# EAGLE library part SSW-103-02-S-T (library con-samtec)
THROUGH-HOLE .025" SQ POST SOCKET Source: Samtec SSW.pdf
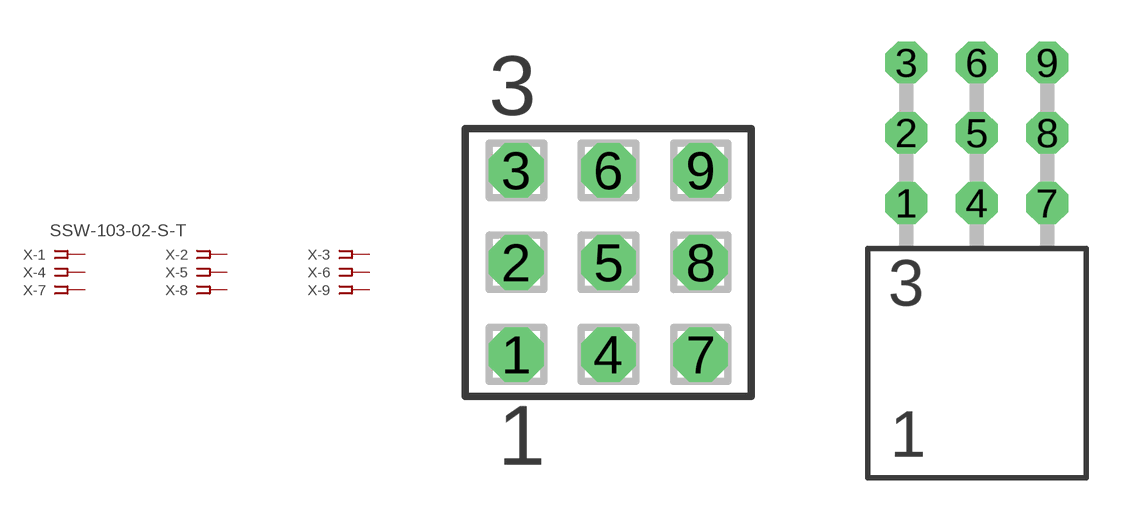
[diagram p53: symbol with the pads of SSW-103-02-S-T; footprints SSW-103-02-S-T, SSW-103-02-S-T-RA]

Designator prefix X; gates -1=FPINV -2=FPIN -3=FPIN -4=FPIN -5=FPIN -6=FPIN -7=FPIN -8=FPIN -9=FPIN

## SSW-103-02-S-T (MPN: SSW-103-02-S-T; OC_FARNELL: unknown; OC_NEWARK: 82P2079)  [SSW-103-02-S-T]
1  -1:1  pas
2  -2:1  pas
3  -3:1  pas
4  -4:1  pas
5  -5:1  pas
6  -6:1  pas
7  -7:1  pas
8  -8:1  pas
9  -9:1  pas

## SSW-103-02-S-TRA (MPN: SSW-103-02-S-T-RA; OC_FARNELL: unknown; OC_NEWARK: 82P2080)  [SSW-103-02-S-T-RA]
Pads as for SSW-103-02-S-T

## Footprint SSW-103-02-S-T (pad centres in mm)
THROUGH-HOLE .025" SQ POST SOCKET Source: Samtec SSW.pdf
drill 1 pad 1.5 octagon: 1 -2.54,-2.54; 2 -2.54,0; 3 -2.54,2.54; 4 0,-2.54; 5 0,0; 6 0,2.54; 7 2.54,-2.54; 8 2.54,0; 9 2.54,2.54

## Footprint SSW-103-02-S-T-RA (pad centres in mm)
THROUGH-HOLE .025" SQ POST SOCKET Source: Samtec SSW.pdf
drill 1 pad 1.5 octagon: 1 -2.54,1.524; 2 -2.54,4.064; 3 -2.54,6.604; 4 0,1.524; 5 0,4.064; 6 0,6.604; 7 2.54,1.524; 8 2.54,4.064; 9 2.54,6.604